# Altium footprint library PcbLib1.PcbLib: 2 footprints
Each footprint in its own frame and in the unit in brackets; x right, y up, seen from the top. Pads: shape width x height; smd on the part's side, far side on the other; paste and mask are expansions set on the pad; w line width, h text height; cw(c..) or ccw(c..) is an arc to the next point about the centre after c.
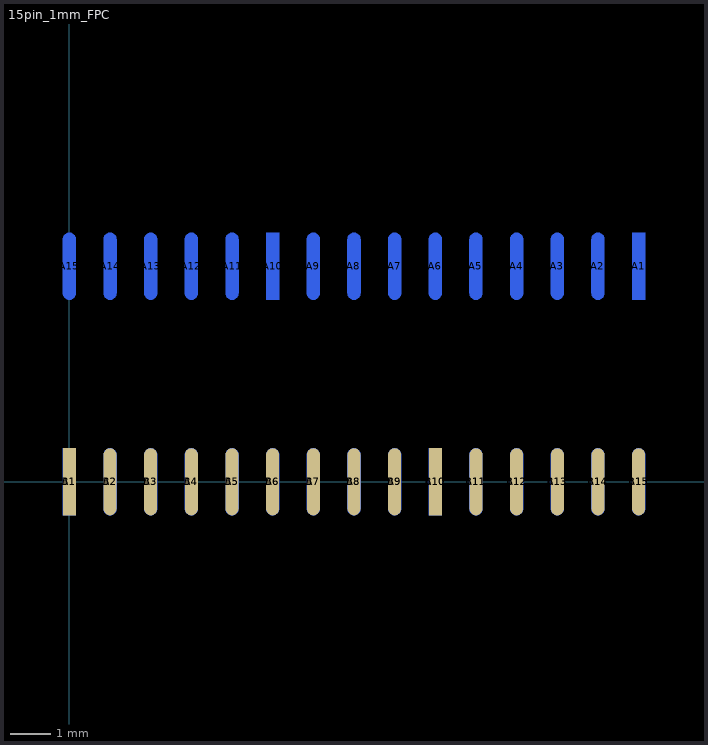
[diagram p0: the footprints below, top view; thin cyan lines are the x and y axes]

## 15pin_1mm_FPC [mm]
height 5.74
pads (45):
  rect 0.32x1.65 smd: A1(0,0) A10(9,0)
  rect 0.32x1.65 smd far side: A1(14,5.302) A10(5,5.302) B1(0,0) B10(9,0)
  oval 0.32x1.65 smd: A2(1,0) A3(2,0) A4(3,0) A5(4,0) A6(5,0) A7(6,0) A8(7,0) A9(8,0) A11(10,0) A12(11,0) A13(12,0) A14(13,0) A15(14,0)
  oval 0.32x1.65 smd far side: A2(13,5.302) A3(12,5.302) A4(11,5.302) A5(10,5.302) A6(9,5.302) A7(8,5.302) A8(7,5.302) A9(6,5.302) A11(4,5.302) A12(3,5.302) A13(2,5.302) A14(1,5.302) A15(0,5.302) B2(1,0) B3(2,0) B4(3,0) B5(4,0) B6(5,0) B7(6,0) B8(7,0) B9(8,0) B11(10,0) B12(11,0) B13(12,0) B14(13,0) B15(14,0)

## PCBComponent_1 [mm]